# Altium footprint library Chip_Capacitor_N.PcbLib: 24 footprints (part 1 of 2)
Each footprint in its own frame and in the unit in brackets; x right, y up, seen from the top. Pads: shape width x height; smd on the part's side, far side on the other; paste and mask are expansions set on the pad; w line width, h text height; cw(c..) or ccw(c..) is an arc to the next point about the centre after c.
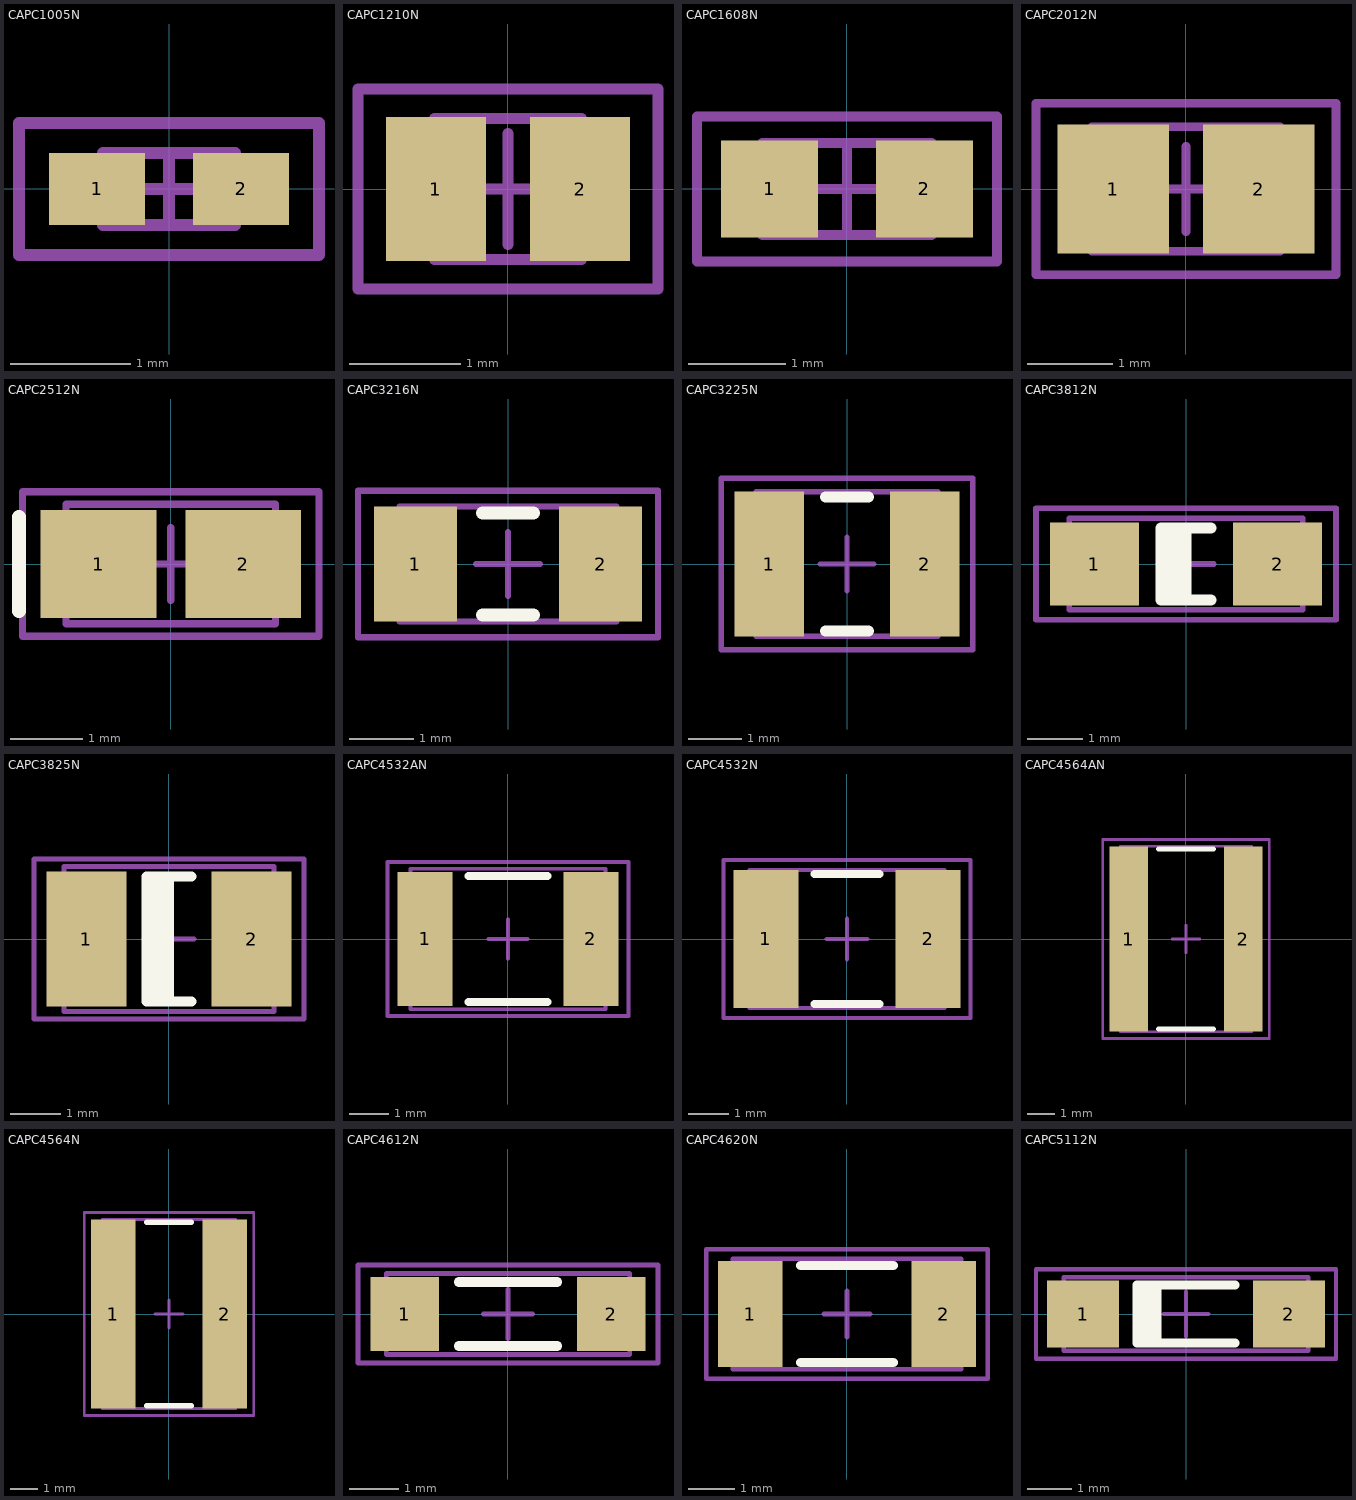
[diagram p0: the footprints below, top view; thin cyan lines are the x and y axes]

## CAPC1005N [mm] "Chip Capacitor, Body 1.0x0.5mm, IPC Medium Density"
height 0.6
pads (2):
  rect 0.8x0.6 smd: 1(-0.6,0) 2(0.6,0)
Mechanical 13:
  lines w0.1: -0.55,-0.3 -0.55,0.3 0.55,0.3 0.55,-0.3 -0.55,-0.3
Mechanical 15:
  lines w0.1: -0.3,0 0.3,0 ; 0,-0.3 0,0.3 ; -1.25,-0.55 -1.25,0.55 1.25,0.55 1.25,-0.55 -1.25,-0.55
3D body: height 0.6, standoff 0, extent -0.55,-0.3 0.55,0.3

## CAPC1210N [mm] "Chip Capacitor, Body 1.2x1.0mm, IPC Medium Density"
height 1.02
pads (2):
  rect 0.9x1.3 smd: 1(-0.65,0) 2(0.65,0)
Mechanical 13:
  lines w0.1: -0.66,-0.635 0.66,-0.635 0.66,0.635 -0.66,0.635 -0.66,-0.635
Mechanical 15:
  lines w0.1: -0.5,0 0.5,0 ; 0,-0.5 0,0.5 ; -1.35,-0.9 1.35,-0.9 1.35,0.9 -1.35,0.9 -1.35,-0.9
3D body: height 1.02, standoff 0, extent -0.66,-0.635 0.66,0.635

## CAPC1608N [mm] "Chip Capacitor, Body 1.6x0.8mm, IPC Medium Density"
height 0.85
pads (2):
  rect 1x1 smd: 1(-0.8,0) 2(0.8,0)
Mechanical 13:
  lines w0.1: -0.875,-0.475 0.875,-0.475 0.875,0.475 -0.875,0.475 -0.875,-0.475
Mechanical 15:
  lines w0.1: -0.475,0 0.475,0 ; 0,-0.475 0,0.475 ; -1.55,-0.75 1.55,-0.75 1.55,0.75 -1.55,0.75 -1.55,-0.75
3D body: height 0.85, standoff 0, extent -0.875,-0.475 0.875,0.475

## CAPC2012N [mm] "Chip Capacitor, Body 2.0x1.3mm, IPC Medium Density"
height 1.1
pads (2):
  rect 1.3x1.5 smd: 1(-0.85,0) 2(0.85,0)
Mechanical 13:
  lines w0.1: -1.1,-0.725 1.1,-0.725 1.1,0.725 -1.1,0.725 -1.1,-0.725
Mechanical 15:
  lines w0.1: -0.5,0 0.5,0 ; 0,-0.5 0,0.5 ; -1.75,-1 1.75,-1 1.75,1 -1.75,1 -1.75,-1
3D body: height 1.1, standoff 0, extent -1.1,-0.725 1.1,0.725

## CAPC2512N [mm] "Chip Capacitor, Body 2.54x1.27mm, IPC Medium Density"
height 1.66
pads (2):
  rect 1.6x1.5 smd: 1(-1,0) 2(1,0)
Top Overlay:
  lines w0.2: -2.1,-0.65 -2.1,0.65
Mechanical 13:
  lines w0.1: -1.45,-0.825 1.45,-0.825 1.45,0.825 -1.45,0.825 -1.45,-0.825
Mechanical 15:
  lines w0.1: -0.5,0 0.5,0 ; 0,-0.5 0,0.5 ; -2.05,-1 2.05,-1 2.05,1 -2.05,1 -2.05,-1
3D body: height 1.66, standoff 0, extent -1.45,-0.825 1.45,0.825

## CAPC3216N [mm] "Chip Capacitor, Body 3.2x1.6mm, IPC Medium Density"
height 1.35
pads (2):
  rect 1.3x1.8 smd: 1(-1.45,0) 2(1.45,0)
Top Overlay:
  lines w0.2: -0.4,-0.8 0.4,-0.8 ; -0.4,0.8 0.4,0.8
Mechanical 13:
  lines w0.1: -1.7,-0.9 1.7,-0.9 1.7,0.9 -1.7,0.9 -1.7,-0.9
Mechanical 15:
  lines w0.1: -0.5,0 0.5,0 ; 0,-0.5 0,0.5 ; -2.35,-1.15 2.35,-1.15 2.35,1.15 -2.35,1.15 -2.35,-1.15
3D body: height 1.35, standoff 0, extent -1.7,-0.9 1.7,0.9

## CAPC3225N [mm] "Chip Capacitor, Body 3.2x2.5mm, IPC Medium Density"
height 1.35
pads (2):
  rect 1.3x2.7 smd: 1(-1.45,0) 2(1.45,0)
Top Overlay:
  lines w0.2: -0.4,-1.25 0.4,-1.25 ; -0.4,1.25 0.4,1.25
Mechanical 13:
  lines w0.1: -1.7,-1.35 1.7,-1.35 1.7,1.35 -1.7,1.35 -1.7,-1.35
Mechanical 15:
  lines w0.1: -0.5,0 0.5,0 ; 0,-0.5 0,0.5 ; -2.35,-1.6 2.35,-1.6 2.35,1.6 -2.35,1.6 -2.35,-1.6
3D body: height 1.35, standoff 0, extent -1.7,-1.35 1.7,1.35

## CAPC3812N [mm] "Chip Capacitor, Body 3.81x1.27mm, IPC Medium Density"
height 1.66
pads (2):
  rect 1.6x1.5 smd: 1(-1.65,0) 2(1.65,0)
Top Overlay:
  rectangle: -0.45,-0.65 0.1,0.65
  lines w0.2: 0.45,-0.65 -0.45,-0.65 -0.45,0.65 0.45,0.65
Mechanical 13:
  lines w0.1: -2.1,-0.825 2.1,-0.825 2.1,0.825 -2.1,0.825 -2.1,-0.825
Mechanical 15:
  lines w0.1: -0.5,0 0.5,0 ; 0,-0.5 0,0.5 ; -2.7,-1 2.7,-1 2.7,1 -2.7,1 -2.7,-1
3D body: height 1.66, standoff 0, extent -2.1,-0.825 2.1,0.825

## CAPC3825N [mm] "Chip Capacitor, Body 3.81x2.54mm, IPC Medium Density"
height 1.66
pads (2):
  rect 1.6x2.7 smd: 1(-1.65,0) 2(1.65,0)
Top Overlay:
  rectangle: -0.45,-1.25 0.1,1.25
  lines w0.2: 0.45,-1.25 -0.45,-1.25 -0.45,1.25 0.45,1.25
Mechanical 13:
  lines w0.1: -2.1,-1.45 2.1,-1.45 2.1,1.45 -2.1,1.45 -2.1,-1.45
Mechanical 15:
  lines w0.1: -0.5,0 0.5,0 ; 0,-0.5 0,0.5 ; -2.7,-1.6 2.7,-1.6 2.7,1.6 -2.7,1.6 -2.7,-1.6
3D body: height 1.66, standoff 0, extent -2.1,-1.45 2.1,1.45

## CAPC4532AN [mm] "Chip Capacitor, Body 4.5x3.2mm, IPC Medium Density"
height 2.03
pads (2):
  rect 1.4x3.4 smd: 1(-2.1,0) 2(2.1,0)
Top Overlay:
  lines w0.2: -1,-1.6 1,-1.6 ; -1,1.6 1,1.6
Mechanical 13:
  lines w0.1: -2.475,-1.78 -2.475,1.78 2.475,1.78 2.475,-1.78 -2.475,-1.78
Mechanical 15:
  lines w0.1: -0.5,0 0.5,0 ; 0,-0.5 0,0.5 ; -3.05,-1.95 -3.05,1.95 3.05,1.95 3.05,-1.95 -3.05,-1.95
3D body: height 2.03, standoff 0, extent -2.475,-1.78 2.475,1.78

## CAPC4532N [mm] "Chip Capacitor, Body 4.5x3.2mm, IPC Medium Density"
height 1.35
pads (2):
  rect 1.6x3.4 smd: 1(-2,0) 2(2,0)
Top Overlay:
  lines w0.2: -0.8,-1.6 0.8,-1.6 ; -0.8,1.6 0.8,1.6
Mechanical 13:
  lines w0.1: -2.4,-1.7 2.4,-1.7 2.4,1.7 -2.4,1.7 -2.4,-1.7
Mechanical 15:
  lines w0.1: -0.5,0 0.5,0 ; 0,-0.5 0,0.5 ; -3.05,-1.95 3.05,-1.95 3.05,1.95 -3.05,1.95 -3.05,-1.95
3D body: height 1.35, standoff 0, extent -2.4,-1.7 2.4,1.7

## CAPC4564AN [mm] "Chip Capacitor, Body 4.5x6.4mm, IPC Medium Density"
height 2.03
pads (2):
  rect 1.4x6.8 smd: 1(-2.1,0) 2(2.1,0)
Top Overlay:
  lines w0.2: -1,-3.3 1,-3.3 ; -1,3.3 1,3.3
Mechanical 13:
  lines w0.1: -2.4,-3.4 2.4,-3.4 2.4,3.4 -2.4,3.4 -2.4,-3.4
Mechanical 15:
  lines w0.1: -0.5,0 0.5,0 ; 0,-0.5 0,0.5 ; -3.05,-3.65 3.05,-3.65 3.05,3.65 -3.05,3.65 -3.05,-3.65
3D body: height 2.03, standoff 0, extent -2.4,-3.4 2.4,3.4

## CAPC4564N [mm] "Chip Capacitor, Body 4.5x6.4mm, IPC Medium Density"
height 1.1
pads (2):
  rect 1.6x6.8 smd: 1(-2,0) 2(2,0)
Top Overlay:
  lines w0.2: -0.8,-3.3 0.8,-3.3 ; -0.8,3.3 0.8,3.3
Mechanical 13:
  lines w0.1: -2.4,-3.4 2.4,-3.4 2.4,3.4 -2.4,3.4 -2.4,-3.4
Mechanical 15:
  lines w0.1: -0.5,0 0.5,0 ; 0,-0.5 0,0.5 ; -3.05,-3.65 3.05,-3.65 3.05,3.65 -3.05,3.65 -3.05,-3.65
3D body: height 1.1, standoff 0, extent -2.4,-3.4 2.4,3.4

## CAPC4612N [mm] "Chip Capacitor, Body 4.57x1.27mm, IPC Medium Density"
height 1.4
pads (2):
  rect 1.4x1.5 smd: 1(-2.1,0) 2(2.1,0)
Top Overlay:
  lines w0.2: -1,-0.65 1,-0.65 ; -1,0.65 1,0.65
Mechanical 13:
  lines w0.1: -2.475,-0.825 2.475,-0.825 2.475,0.825 -2.475,0.825 -2.475,-0.825
Mechanical 15:
  lines w0.1: -0.5,0 0.5,0 ; 0,-0.5 0,0.5 ; -3.05,-1 3.05,-1 3.05,1 -3.05,1 -3.05,-1
3D body: height 1.4, standoff 0, extent -2.475,-0.825 2.475,0.825

## CAPC4620N [mm] "Chip Capacitor, Body 4.6x2.0mm, IPC Medium Density"
height 2.03
pads (2):
  rect 1.4x2.3 smd: 1(-2.1,0) 2(2.1,0)
Top Overlay:
  lines w0.2: -1,-1.05 1,-1.05 ; -1,1.05 1,1.05
Mechanical 13:
  lines w0.1: -2.475,-1.2 2.475,-1.2 2.475,1.2 -2.475,1.2 -2.475,-1.2
Mechanical 15:
  lines w0.1: -0.5,0 0.5,0 ; 0,-0.5 0,0.5 ; -3.05,-1.4 3.05,-1.4 3.05,1.4 -3.05,1.4 -3.05,-1.4
3D body: height 2.03, standoff 0, extent -2.475,-1.2 2.475,1.2

## CAPC5112N [mm] "Chip Capacitor, Body 5.08x1.27mm, IPC Medium Density"
height 1.66
pads (2):
  rect 1.6x1.5 smd: 1(-2.3,0) 2(2.3,0)
Top Overlay:
  rectangle: -1.1,-0.65 -0.55,0.65
  lines w0.2: 1.1,-0.65 -1.1,-0.65 -1.1,0.65 1.1,0.65
Mechanical 13:
  lines w0.1: -2.73,-0.825 2.73,-0.825 2.73,0.825 -2.73,0.825 -2.73,-0.825
Mechanical 15:
  lines w0.1: -0.5,0 0.5,0 ; 0,-0.5 0,0.5 ; -3.35,-1 3.35,-1 3.35,1 -3.35,1 -3.35,-1
3D body: height 1.66, standoff 0, extent -2.73,-0.825 2.73,0.825